# Altium schematic symbol library SN65176BDR.SchLib: 1 symbol
Pins are listed as number, name and electrical type; pins without a type are passive.

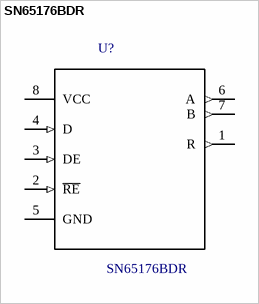
[diagram p0: symbol SN65176BDR]

## SN65176BDR
designator U?
/ Single Transmitter/Receiver RS-422/RS-485 8-Pin SOIC T/R /; MF: Texas Instruments; MP: SN65176BDR; Digi-Key_Part_Number: 296-14636-1-ND; Package: SOIC-8 Texas Instruments; Digi-Key_Purchase_URL: https://www.digikey.vn/product-detail/en/texas-instruments/SN65176BDR/296-14636-1-ND/555935?utm_source=snapeda&utm_medium=aggregator&utm_campaign=symbol; SnapEDA_Link: https://www.snapeda.com/parts/SN65176BDR/Texas%20Instruments/view-part/?ref=snap; Value: *
footprint *SOIC127P600X175-8N
pins: 1 R (out), 2 ~{RE} (in), 3 DE (in), 4 D (in), 5 GND, 6 A (out), 7 B (out), 8 VCC (power)